# Altium schematic symbol library M20-8890845 Header.SchLib: 2 symbols
Pins are listed as number, name and electrical type; pins without a type are passive.

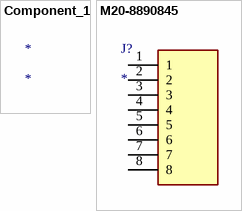
[diagram p0: symbols Component_1 to M20-8890845]

## Component_1
designator *

## M20-8890845
designator J?
Connector; Manufacturer_Name: Harwin; Manufacturer_Part_Number: M20-8890845; Description: 2.54mm (0.1") Pitch SIL SMT Horizontal Pin Header; Datasheet Link: https://cdn.harwin.com/pdfs/M20-889.pdf; Mouser Part Number: 855-M20-8890845; Mouser Price/Stock: https://www.mouser.co.uk/ProductDetail/Harwin/M20-8890845?qs=k41KVqW3ymqbj55BP%2FIx8Q%3D%3D
footprint M208890845
pins: 1, 2, 3, 4, 5, 6, 7, 8